# Altium footprint library MSOP-8_INV_HO2.8-1B.PcbLib: 1 footprints
Each footprint in its own frame and in the unit in brackets; x right, y up, seen from the top. Pads: shape width x height; smd on the part's side, far side on the other; paste and mask are expansions set on the pad; w line width, h text height; cw(c..) or ccw(c..) is an arc to the next point about the centre after c.
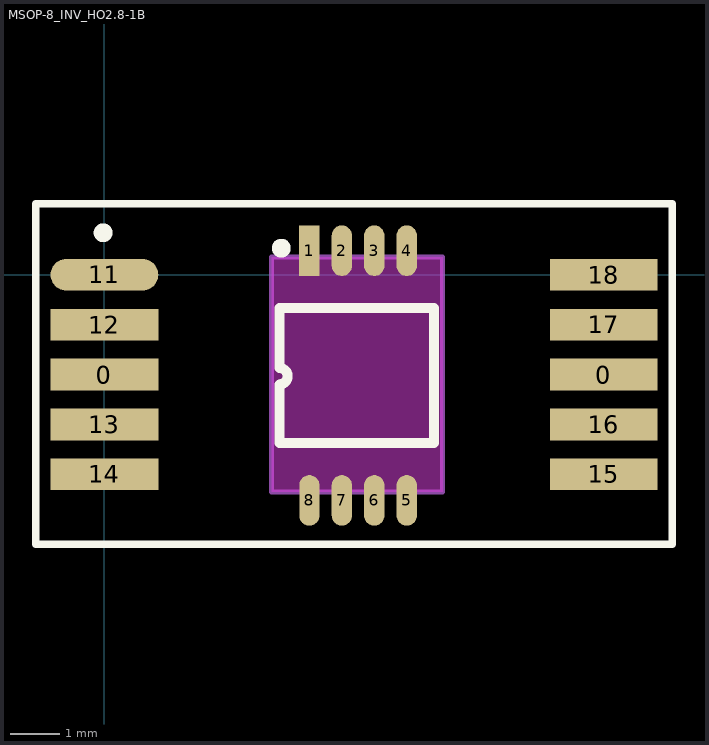
[diagram p0: the footprint, top view; thin cyan lines are the x and y axes]

## MSOP-8_INV_HO2.8-1B [mil]
pads (18):
  rect 85x25 smd: 0(0,-78.74) 0(393.8,-78.74) 12(0,-39.37) 13(0,-118.11) 14(0,-157.48) 15(393.8,-157.48) 16(393.8,-118.11) 17(393.8,-39.37) 18(393.8,0)
  rect 16x40 smd: 1(161.51,18.95)
  oval 16x40 smd: 2(187.28,18.95) 3(212.87,18.95) 4(238.46,18.95) 5(238.46,-177.96) 6(212.87,-177.96) 7(187.28,-177.96) 8(161.69,-177.96)
  oval 85x25 smd: 11(0,0)
Top Overlay:
  circle w10: c139.51,20.95 r2.44
  circle w10: c-1.02,33.12 r2.44
  lines w6: -54.13,-212.58 447.83,-212.58 447.83,56 -54.13,56 -54.13,-212.58
  lines w7.87: 138.07,-73.6 cw(c138.07,-80) 138.07,-86.4 138.07,-132.66 260.11,-132.66 ; 138.07,-73.11 138.07,-26.36 260.11,-26.36 ; 260.11,-86.4 260.11,-132.66 ; 260.11,-73.11 260.11,-26.36 ; 260.11,-132.66 260.11,-26.36
Keep-Out Layer:
  board cut-out: 131.89,13.78 266.73,13.78 266.73,-171.26 131.89,-171.26
Mechanical 1:
  lines w3.94: 131.89,-171.49 266.73,-171.49 266.73,13.85 131.89,13.85 131.89,-171.49
3D body "N02.8-1B.STEP": height 114.17, standoff 0, extent 29.37,-206.69 364.02,49.21
3D body "MSOP-8.STEP": height 6.91, standoff -35.4, extent 141.02,-178.34 259.13,19.33